# EAGLE library part TPD2S017DBVR (library Transputer)
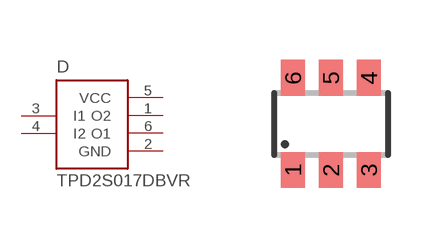
[diagram p18: symbol with the pads of SOT23-6; footprint SOT23-6]

Designator prefix D

## TPD2S017DBVR  [SOT23-6]
1  O2  pas
2  GND  pas
3  I1  pas
4  I2  pas
5  VCC  pas
6  O1  pas

## Footprint SOT23-6 (pad centres in mm)
smd 0.6 x 0.9: 1 -0.95,-1.15; 2 0,-1.15; 3 0.95,-1.15; 4 0.95,1.15; 5 0,1.15; 6 -0.95,1.15